# Altium footprint library PCB - SPECIALISEDSENSOR - TALEMA AC1030.PCBLIB: 1 footprints
Each footprint in its own frame and in the unit in brackets; x right, y up, seen from the top. Pads: shape width x height; smd on the part's side, far side on the other; paste and mask are expansions set on the pad; w line width, h text height; cw(c..) or ccw(c..) is an arc to the next point about the centre after c.
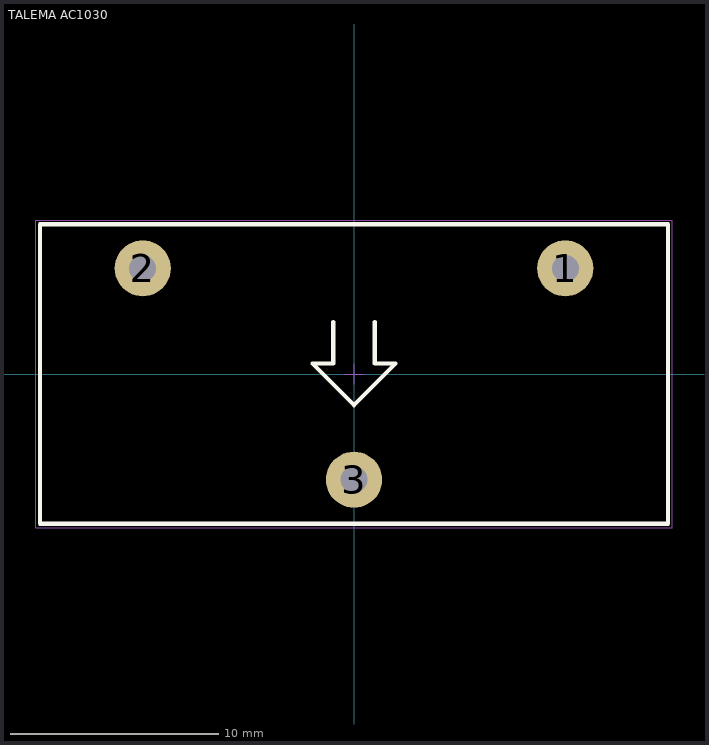
[diagram p0: the footprint, top view; thin cyan lines are the x and y axes]

## TALEMA AC1030 [mm] "CURRENT TRANSFORMER 30.20x30.20x14.30"
height 23.8
pads (3):
  round 2.7 hole 1.3: 1(10.16,5.08) 2(-10.16,5.08) 3(0,-5.08)
Top Overlay:
  lines w0.2: -1,2.5 -1,0.5 -2,0.5 0,-1.5 2,0.5 1,0.5 1,2.5 ; -15.1,-7.2 -15.1,7.2 15.1,7.2 15.1,-7.2 -15.1,-7.2
Mechanical 13:
  lines w0.1: -15.1,-7.2 -15.1,7.2 15.1,7.2 15.1,-7.2 -15.1,-7.2
Mechanical 15:
  lines w0.05: -0.5,0 0.5,0 ; 0,-0.5 0,0.5 ; -15.3,-7.4 -15.3,7.4 15.3,7.4 15.3,-7.4 -15.3,-7.4
3D body "TALEMA - AC1025.step": height 30.7, standoff -5, extent -15.1,-7.15 15.1,7.15